# EAGLE library part FT230X (library MCU)
FTDI Chip FT230X USB to basic UART IC
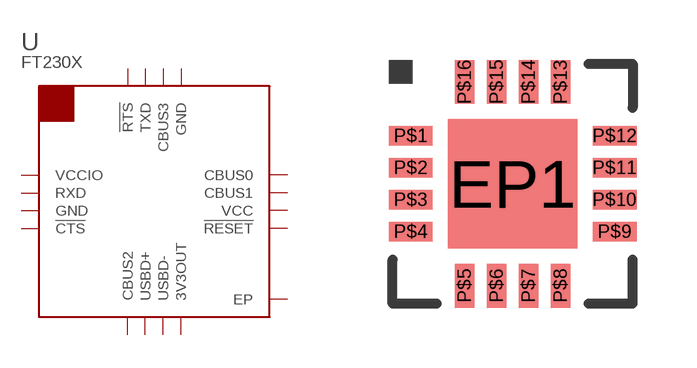
[diagram p1: symbol with the pads of QFN16-LD; footprint QFN16-LD]

Designator prefix U

## FT230XQ  [QFN16-LD]
EP1  EP  pwr
P$1  VCCIO  pwr
P$2  RXD  in
P$3  GND  pwr
P$4  !CTS  in
P$5  CBUS2
P$6  USBD+  in
P$7  USBD-  in
P$8  3V3OUT  pwr
P$9  !RESET  in
P$10  VCC  pwr
P$11  CBUS1
P$12  CBUS0
P$13  GND  pwr
P$14  CBUS3
P$15  TXD  out
P$16  !RTS  out

## Footprint QFN16-LD (pad centres in mm)
smd 3.24 x 3.24: EP1 0,0
smd 1.1 x 0.48: P$1 -2.55,1.2; P$2 -2.55,0.4; P$3 -2.55,-0.4; P$4 -2.55,-1.2; P$9 2.55,-1.2; P$10 2.55,-0.4; P$11 2.55,0.4; P$12 2.55,1.2
smd 0.48 x 1.1: P$5 -1.2,-2.55; P$6 -0.4,-2.55; P$7 0.4,-2.55; P$8 1.2,-2.55; P$13 1.2,2.55; P$14 0.4,2.55; P$15 -0.4,2.55; P$16 -1.2,2.55